# Altium footprint library BQ27441DRZR-G1A.PcbLib: 2 footprints
Each footprint in its own frame and in the unit in brackets; x right, y up, seen from the top. Pads: shape width x height; smd on the part's side, far side on the other; paste and mask are expansions set on the pad; w line width, h text height; cw(c..) or ccw(c..) is an arc to the next point about the centre after c.
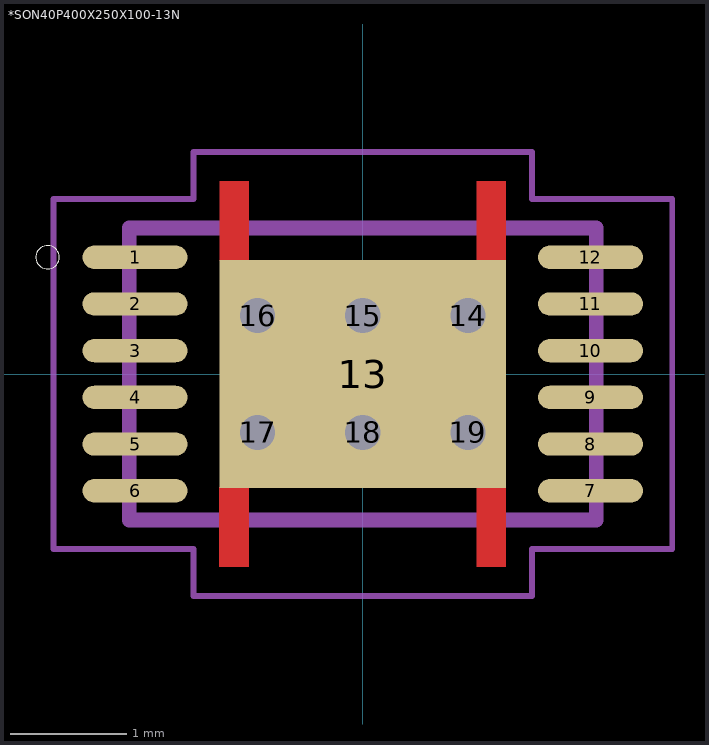
[diagram p0: the footprints below, top view; thin cyan lines are the x and y axes]

## *SON40P400X250X100-13N [mm]
pads (19):
  oval 0.9x0.2 smd: 1(-1.95,1) 2(-1.95,0.6) 3(-1.95,0.2) 4(-1.95,-0.2) 5(-1.95,-0.6) 6(-1.95,-1) 7(1.95,-1) 8(1.95,-0.6) 9(1.95,-0.2) 10(1.95,0.2) 11(1.95,0.6) 12(1.95,1)
  rect 2.45x1.95 smd: 13(0,0)
  round 0.4 hole 0.3: 14(0.9,0.5) 15(0,0.5) 16(-0.9,0.5) 17(-0.9,-0.5) 18(0,-0.5) 19(0.9,-0.5)
Top Layer:
  region: -0.978,1.653 -0.978,0.97 -1.225,0.97 -1.225,1.653
  region: -0.975,-0.97 -0.975,-1.653 -1.228,-1.653 -1.228,-0.97
  region: 1.226,-0.971 1.226,-1.65 0.975,-1.65 0.975,-0.971
  region: 1.225,1.65 1.225,0.975 0.975,0.975 0.975,1.65
Top Overlay:
  circle w0: c-2.7,1 r0.1
Top Paste:
  region: 1.225,1.625 1.225,1.101 0.976,1.101 0.976,1.625
  region: -1.226,-1.626 -1.226,-1.1 -0.975,-1.1 -0.975,-1.626
  region: 0.975,-1.625 0.975,-1.1 1.225,-1.1 1.225,-1.625
  region: -0.976,1.626 -0.976,1.1 -1.225,1.1 -1.225,1.626
  region: 1.101,-0.101 1.101,-0.901 0.099,-0.901 0.099,-0.101
  region: -0.101,0.901 -0.101,0.099 -1.101,0.099 -1.101,0.901
  region: -0.1,-0.1 -0.1,-0.902 -1.102,-0.902 -1.102,-0.1
  region: 1.1,0.9 1.1,0.1 0.1,0.1 0.1,0.9
Top Solder:
  region: 1.325,1.75 1.325,0.962 0.877,0.962 0.877,1.75
  region: -1.327,-1.752 -1.327,-0.96 -0.875,-0.96 -0.875,-1.752
  region: -0.876,1.751 -0.876,0.96 -1.325,0.96 -1.325,1.751
  region: 1.327,-0.962 1.327,-1.751 0.874,-1.751 0.874,-0.962
Mechanical 4:
  lines w0.127: -2,-1.25 -2,1.25 ; -2,-1.25 2,-1.25 ; -2,-1.25 -2,1.25 ; -2,-1.25 2,-1.25 ; -2,1.25 2,1.25 ; -2,1.25 2,1.25 ; 2,-1.25 2,1.25 ; 2,-1.25 2,1.25
Mechanical 16:
  lines w0.05: -2.65,-1.5 -2.65,1.5 -1.45,1.5 -1.45,1.9 1.45,1.9 1.45,1.5 2.65,1.5 2.65,-1.5 1.45,-1.5 1.45,-1.9 -1.45,-1.9 -1.45,-1.5 -2.65,-1.5

## PCBComponent_1 [mm]